# Altium schematic symbol library pin6headerF.SchLib: 1 symbol
Pins are listed as number, name and electrical type; pins without a type are passive.

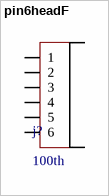
[diagram p0: symbol pin6headF]

## pin6headF
designator j?, comment 100th
footprint pin6headerF
footprint pin6headerF
pins: 1, 2, 3, 4, 5, 6